# EAGLE library part 614104150121 (library Input-Output_Connectors_rev15d)
WR-COM_USB_Type A_Reverse Horizontal_THT; Type A Reverse Horizontal THT - with Clips - Slim type for PCB thickness 1.20mm Code : Con_I-O_COM_USB_2.0_A_614104150121_614104150121 <http://katalog.we-online.de/media/images/eican/Con_I-O_COM_USB_2.0_A_614104150121_pf2.jpg> Details see: http://katalog.we-online.de/em/datasheet/614104150121.pdf Created 12/08/2014, Dan Xu 2014 (C) Wurth Elektronik
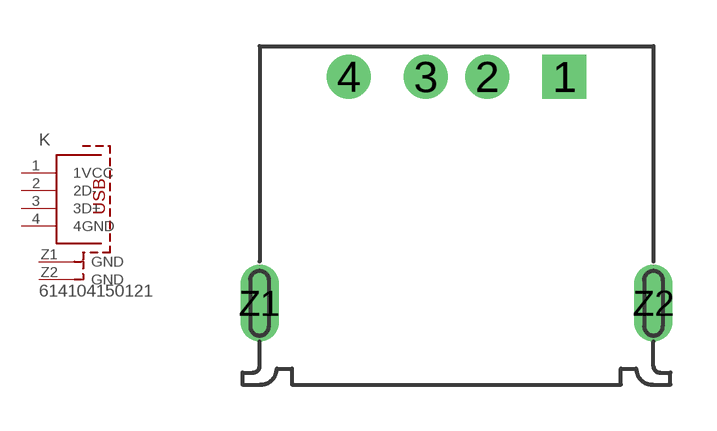
[diagram p154: symbol with the pads of 614104150121; footprint 614104150121]

Designator prefix K

## 614104150121  [614104150121]
1  1VCC  pas
2  2D-  pas
3  3D+  pas
4  4GND  pas
Z1  GND
Z2  GND

## Footprint 614104150121 (pad centres in mm)
614104150121 WR-COM_USB_Type A_Reverse Horizontal_THT Type A Reverse Horizontal THT - with Clips - Slim type for PCB thickness 1.20mm
drill 0.92 pad 1.42 square: 1 3.5,0
drill 0.92 pad 1.42: 2 1,0; 3 -1,0; 4 -3.5,0
drill 0.6 pad 1.25 long: Z1 -6.4,-7.35; Z2 6.4,-7.35